# EAGLE library part OPA4205APWR (library SSW-130-01-G-S)
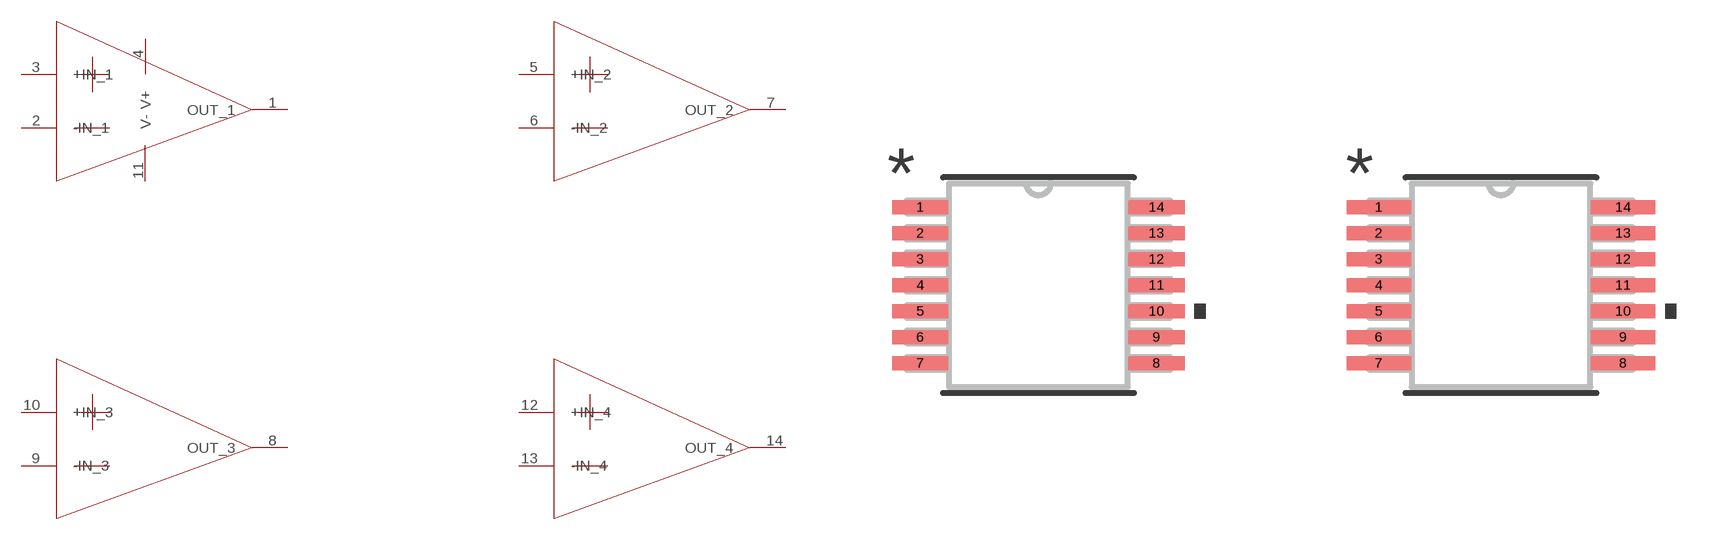
[diagram p4: symbol with the pads of TSSOP14_PW_R-PDSO-G14_TEX; footprints TSSOP14_PW_R-PDSO-G14_TEX, TSSOP14_PW_R-PDSO-G14_TEX-M]

Designator prefix U

## OPA4205APWR (COPYRIGHT: Copyright (C) 2024 Ultra Librarian. All rights reserved.; MANUFACTURER_PART_NUMBER: OPA4205APWR; MFR_NAME: Texas Instruments; TYPE: Linear)  [TSSOP14_PW_R-PDSO-G14_TEX]
1  OUT_1  out
2  -IN_1  out
3  +IN_1  out
4  V+  out
5  +IN_2  out
6  -IN_2  out
7  OUT_2  out
8  OUT_3  out
9  -IN_3  out
10  +IN_3  out
11  V-  out
12  +IN_4  out
13  -IN_4  out
14  OUT_4  out

## OPA4205APWRTSSOP14_PW_R-PDSO-G14_TEX-M (COPYRIGHT: Copyright (C) 2024 Ultra Librarian. All rights reserved.; MANUFACTURER_PART_NUMBER: OPA4205APWR; MFR_NAME: Texas Instruments; TYPE: Linear)  [TSSOP14_PW_R-PDSO-G14_TEX-M]
Pads as for TSSOP14_PW_R-PDSO-G14_TEX

## OPA4205APWRTSSOP14_PW_R-PDSO-G14_TEX-L (COPYRIGHT: Copyright (C) 2024 Ultra Librarian. All rights reserved.; MANUFACTURER_PART_NUMBER: OPA4205APWR; MFR_NAME: Texas Instruments; TYPE: Linear)  [TSSOP14_PW_R-PDSO-G14_TEX-L]
Pads as for TSSOP14_PW_R-PDSO-G14_TEX

## Footprint TSSOP14_PW_R-PDSO-G14_TEX (pad centres in mm)
smd 1.41 x 0.356: 1 -2.953,1.95; 2 -2.953,1.3; 3 -2.953,0.65; 4 -2.953,0; 5 -2.953,-0.65; 6 -2.953,-1.3; 7 -2.953,-1.95; 8 2.953,-1.95; 9 2.953,-1.3; 10 2.953,-0.65; 11 2.953,0; 12 2.953,0.65; 13 2.953,1.3; 14 2.953,1.95

## Footprint TSSOP14_PW_R-PDSO-G14_TEX-M (pad centres in mm)
smd 1.613 x 0.356: 1 -3.054,1.95; 2 -3.054,1.3; 3 -3.054,0.65; 4 -3.054,0; 5 -3.054,-0.65; 6 -3.054,-1.3; 7 -3.054,-1.95; 8 3.054,-1.95; 9 3.054,-1.3; 10 3.054,-0.65; 11 3.054,0; 12 3.054,0.65; 13 3.054,1.3; 14 3.054,1.95

## Footprint TSSOP14_PW_R-PDSO-G14_TEX-L (pad centres in mm)
smd 1.168 x 0.305: 1 -2.87,1.95; 2 -2.87,1.3; 3 -2.87,0.65; 4 -2.87,0; 5 -2.87,-0.65; 6 -2.87,-1.3; 7 -2.87,-1.95; 8 2.87,-1.95; 9 2.87,-1.3; 10 2.87,-0.65; 11 2.87,0; 12 2.87,0.65; 13 2.87,1.3; 14 2.87,1.95